# Altium schematic symbol library PH1-04-UA.SchLib: 2 symbols
Pins are listed as number, name and electrical type; pins without a type are passive.

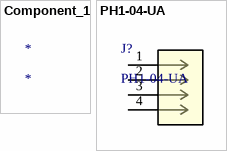
[diagram p0: symbols Component_1 to PH1-04-UA]

## Component_1
designator *

## PH1-04-UA
designator J?
No Description Available; Mfr_Name: ADAM TECHNOLOGIES INC; Copyright: Copyright (C) 2023 Ultra Librarian. All rights reserved.; Manufacturer_Part_Number: PH1-04-UA; Digi-Key_Part_Number_1: 2057-PH1-04-UA-ND; RefDes: RefDes; Type: DEV
footprint CONN_PH1-04-UA_ADM
pins: 1, 2, 3, 4